# Altium schematic symbol library FB0603.Schlib: 1 symbol
Pins are listed as number, name and electrical type; pins without a type are passive.

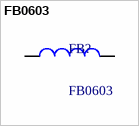
[diagram p0: symbol FB0603]

## FB0603
designator FB?
0603 Multilayer Ferrite Power Bead
pins: 1, 2